# Altium footprint library VX78012-1000.PcbLib: 1 footprints
Each footprint in its own frame and in the unit in brackets; x right, y up, seen from the top. Pads: shape width x height; smd on the part's side, far side on the other; paste and mask are expansions set on the pad; w line width, h text height; cw(c..) or ccw(c..) is an arc to the next point about the centre after c.
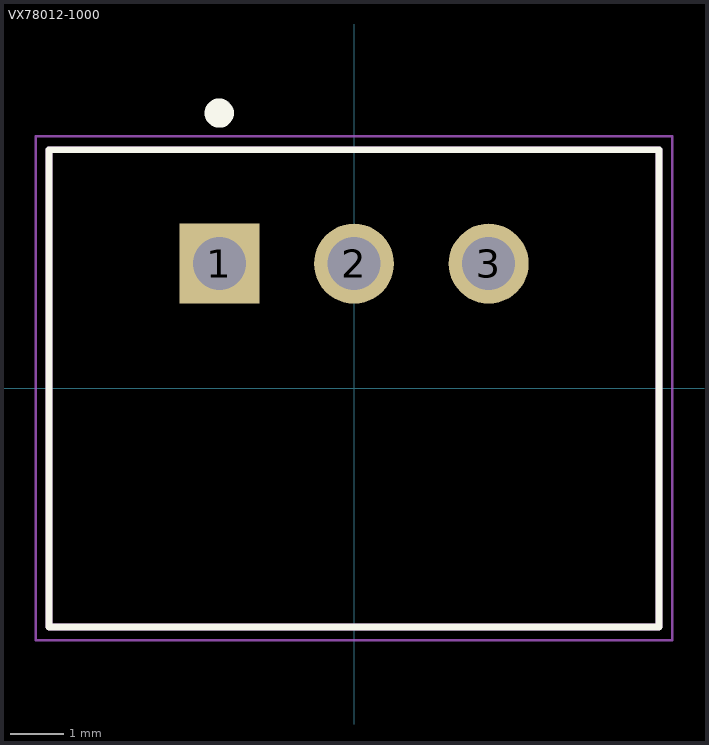
[diagram p0: the footprint, top view; thin cyan lines are the x and y axes]

## VX78012-1000 [mm]
pads (3):
  rect 1.508x1.508 hole 1: 1(-2.54,2.35)
  round 1.508 hole 1: 2(0,2.35) 3(2.54,2.35)
Top Overlay:
  circle w0.35: c-2.54,5.19 r0.1
  circle w0.35: c-2.54,5.19 r0.1
  lines w0.127: -5.75,-4.5 -5.75,4.5 5.75,4.5 5.75,-4.5 -5.75,-4.5
Mechanical 13:
  circle w0.35: c-2.54,2.396 r0.1
  lines w0.127: -5.75,-4.5 -5.75,4.5 5.75,4.5 5.75,-4.5 -5.75,-4.5
Mechanical 15:
  lines w0.05: -6,-4.75 -6,4.75 6,4.75 6,-4.75 -6,-4.75